# Altium integrated library Fuse.IntLib: 7 symbols
Pins are listed as number, name and electrical type; pins without a type are passive.

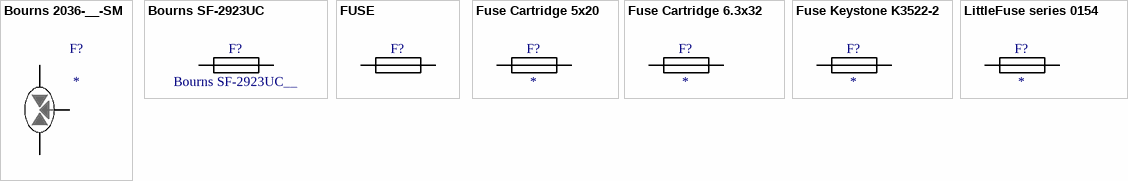
[diagram p0: symbols Bourns 2036-__-SM to LittleFuse series 0154]

## Bourns 2036-__-SM
designator F?
Gas Discharge Tube Bourns 2036; Value: *
footprint Bourns 2036 (Gas discharge Tube 5.0x5.0 Height 7.5)
pins: 1, 2, 3

## Bourns SF-2923UC
designator F?, comment Bourns SF-2923UC__
Bourns SF-2923UC-C Series – Ultra-High Current SMD Fuses; Value: Bourns SF-2923UC__
footprint Bourns SF-2923UC (Ultra-High Current SMD Fuses)
pins: 1, 2

## FUSE
designator F?
FUSE SMD
footprint FUSE 1005 REFLOW (Fuse SMD 1.0x0.5mm (0402-imperial))
footprint FUSE 1608 REFLOW (Fuse SMD 1.6x0.8mm (0603-imperial))
pins: 1, 2

## Fuse Cartridge 5x20
designator F?
Fuse Cartridge 5x20; Value: *
footprint Fuse Cartridge 5x20 Shurter
pins: 1, 2

## Fuse Cartridge 6.3x32
designator F?
Fuse Cartridge 6.3x32; Value: *
footprint Fuse Cartridge 6.3x32 SHH3N
pins: 1, 2, 3, 4

## Fuse Keystone K3522-2
designator F?
Fuse Keystone K3522-2; Value: *
footprint Fuse keystone K3522-2
pins: 1, 2

## LittleFuse series 0154
designator F?
LittleFuse series 0154 C10X5.0 H3.8; Value: *
footprint LittleFuse series 0154 C10X5.0 H3.8 (Surface Mount Fuses  NANO2® > 154 OMNI-BLOK® Fuse and Holder Combination)
pins: 1, 2